# Altium footprint library Mercury_AD_BaseBoard_PCBLIB.PcbLib: 62 footprints (part 1 of 4)
Each footprint in its own frame and in the unit in brackets; x right, y up, seen from the top. Pads: shape width x height; smd on the part's side, far side on the other; paste and mask are expansions set on the pad; w line width, h text height; cw(c..) or ccw(c..) is an arc to the next point about the centre after c.
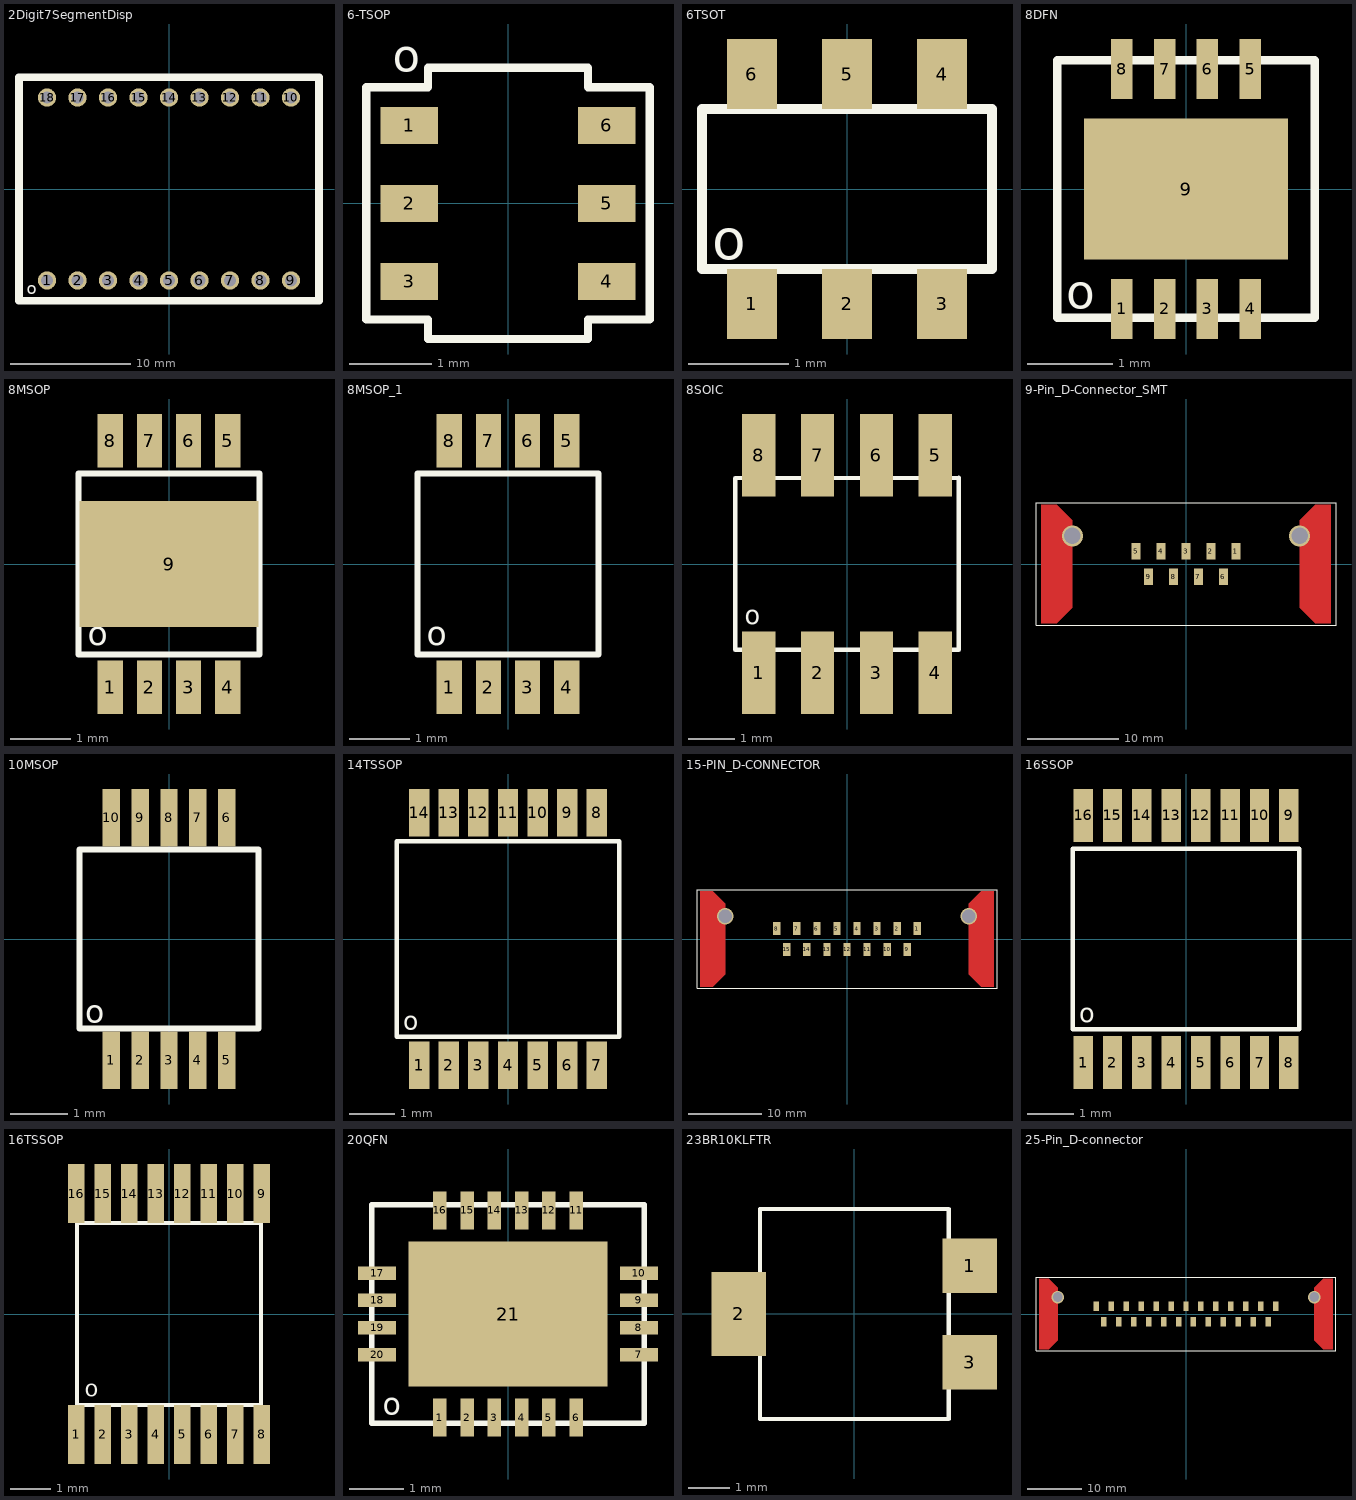
[diagram p0: the footprints below, top view; thin cyan lines are the x and y axes]

## 2Digit7SegmentDisp [mil]
pads (18):
  round 60 hole 40: 1(-400,-300) 2(-300,-300) 3(-200,-300) 4(-100,-300) 5(0,-300) 6(100,-300) 7(200,-300) 8(300,-300) 9(400,-300) 10(400,300) 11(300,300) 12(200,300) 13(100,300) 14(0,300) 15(-100,300) 16(-200,300) 17(-300,300) 18(-400,300)
Top Overlay:
  lines w25: -492.13,-366.14 492.13,-366.14 492.13,366.14 -492.13,366.14 -492.13,-366.14
  text "o" at -466.73,-345.47 h39.37

## 6-TSOP [mm]
pads (6):
  rect 0.7x0.45 smd mask+0.05: 1(-1.2,0.95) 2(-1.2,0) 3(-1.2,-0.95) 4(1.2,-0.95) 5(1.2,0) 6(1.2,0.95)
Top Overlay:
  lines w0.1: -1.725,-1.412 -1.725,1.412 -0.975,1.412 -0.975,1.65 0.975,1.65 0.975,1.412 1.725,1.412 1.725,-1.412 0.975,-1.412 0.975,-1.65 -0.975,-1.65 -0.975,-1.412 -1.725,-1.412
  text "o" at -1.4,1.6 h0.4

## 6TSOT [mm]
pads (6):
  rect 0.5x0.7 smd mask+0.07: 1(-0.95,-1.15) 2(0,-1.15) 3(0.95,-1.15) 4(0.95,1.15) 5(0,1.15) 6(-0.95,1.15)
Top Overlay:
  lines w0.1: -1.45,-0.8 -1.45,0.8 1.45,0.8 1.45,-0.8 -1.45,-0.8
  text "o" at -1.35,-0.7 h0.4

## 8DFN [mm]
pads (9):
  rect 0.25x0.7 smd mask+0.07: 1(-0.75,-1.4) 2(-0.25,-1.4) 3(0.25,-1.4) 4(0.75,-1.4) 5(0.75,1.4) 6(0.25,1.4) 7(-0.25,1.4) 8(-0.75,1.4)
  rect 2.38x1.65 smd mask+0.07: 9(0,0)
Top Overlay:
  lines w0.1: -1.5,-1.5 1.5,-1.5 1.5,1.5 -1.5,1.5 -1.5,-1.5
  text "o" at -1.4,-1.4 h0.4

## 8MSOP [mm]
pads (9):
  rect 0.42x0.889 smd mask+0.07: 1(-0.975,-2.044) 2(-0.325,-2.044) 3(0.325,-2.044) 4(0.975,-2.044) 5(0.975,2.044) 6(0.325,2.044) 7(-0.325,2.044) 8(-0.975,2.044)
  rect 2.974x2.083 smd mask+0.07: 9(0,0)
Top Overlay:
  lines w0.1: -1.5,-1.5 1.5,-1.5 1.5,1.5 -1.5,1.5 -1.5,-1.5
  text "o" at -1.35,-1.35 h0.4

## 8MSOP_1 [mm]
pads (8):
  rect 0.42x0.889 smd mask+0.07: 1(-0.975,-2.044) 2(-0.325,-2.044) 3(0.325,-2.044) 4(0.975,-2.044) 5(0.975,2.044) 6(0.325,2.044) 7(-0.325,2.044) 8(-0.975,2.044)
Top Overlay:
  lines w0.1: -1.5,-1.5 -1.5,1.5 1.5,1.5 1.5,-1.5 -1.5,-1.5
  text "o" at -1.35,-1.35 h0.4

## 8SOIC [mm]
pads (8):
  rect 0.72x1.78 smd mask+0.07: 1(-1.905,-2.34) 2(-0.635,-2.34) 3(0.635,-2.34) 4(1.905,-2.34) 5(1.905,2.34) 6(0.635,2.34) 7(-0.635,2.34) 8(-1.905,2.34)
Top Overlay:
  lines w0.1: 2.405,1.85 2.405,-1.85 -2.405,-1.85 -2.405,1.85 2.405,1.854
  text "o" at -2.2,-1.3 h0.4

## 9-Pin_D-Connector_SMT [mm]
pads (9):
  rect 1x1.8 smd mask+0.07: 1(5.48,1.42) 2(2.74,1.42) 3(0,1.42) 4(-2.74,1.42) 5(-5.48,1.42) 6(4.11,-1.42) 7(1.37,-1.42) 8(-1.37,-1.42) 9(-4.11,-1.42)
via 12.5,3.1 diameter 2.3 hole 1.8
via -12.5,3.1 diameter 2.3 hole 1.8
Top Layer:
  region: 12.5,4.8 12.5,-4.8 14.2,-6.5 15.9,-6.5 15.9,6.5 14.2,6.5
  region: -12.5,-4.8 -12.5,4.8 -14.2,6.5 -15.9,6.5 -15.9,-6.5 -14.2,-6.5
Top Overlay:
  lines w0.1: -16.5,-6.75 16.5,-6.75 16.5,6.75 -16.5,6.75 -16.5,-6.75

## 10MSOP [mm]
pads (10):
  rect 0.3x1 smd mask+0.07: 1(-1,-2.1) 2(-0.5,-2.1) 3(0,-2.1) 4(0.5,-2.1) 5(1,-2.1) 6(1,2.1) 7(0.5,2.1) 8(0,2.1) 9(-0.5,2.1) 10(-1,2.1)
Top Overlay:
  lines w0.1: -1.55,-1.55 -1.55,1.55 1.55,1.55 1.55,-1.55 -1.55,-1.55
  text "o" at -1.45,-1.45 h0.4

## 14TSSOP [mm]
pads (14):
  rect 0.45x1.05 smd mask+0.07: 1(-1.95,-2.775) 2(-1.3,-2.775) 3(-0.65,-2.775) 4(0,-2.775) 5(0.65,-2.775) 6(1.3,-2.775) 7(1.95,-2.775) 8(1.95,2.775) 9(1.3,2.775) 10(0.65,2.775) 11(0,2.775) 12(-0.65,2.775) 13(-1.3,2.775) 14(-1.95,2.775)
Top Overlay:
  lines w0.1: -2.45,-2.15 2.45,-2.15 2.45,2.15 -2.45,2.15 -2.45,-2.15
  text "o" at -2.3,-2 h0.4

## 15-PIN_D-CONNECTOR [mm]
pads (15):
  rect 1x1.8 smd mask+0.07: 1(9.59,1.42) 2(6.85,1.42) 3(4.11,1.42) 4(1.37,1.42) 5(-1.37,1.42) 6(-4.11,1.42) 7(-6.85,1.42) 8(-9.59,1.42) 9(8.22,-1.42) 10(5.48,-1.42) 11(2.74,-1.42) 12(0,-1.42) 13(-2.74,-1.42) 14(-5.48,-1.42) 15(-8.22,-1.42)
via 16.65,3.1 diameter 2.3 hole 1.8
via -16.65,3.1 diameter 2.3 hole 1.8
Top Layer:
  region: 16.65,-4.8 16.65,4.8 18.35,6.5 20.05,6.5 20.05,-6.5 18.35,-6.5
  region: -16.65,-4.8 -16.65,4.8 -18.35,6.5 -20.05,6.5 -20.05,-6.5 -18.35,-6.5
Top Overlay:
  lines w0.1: -20.5,-6.75 -20.5,6.75 20.5,6.75 20.5,-6.75 -20.5,-6.75

## 16SSOP [mil]
pads (16):
  rect 16.5x45 smd mask+2.76: 1(-87.5,-105) 2(-62.5,-105) 3(-37.5,-105) 4(-12.5,-105) 5(12.5,-105) 6(37.5,-105) 7(62.5,-105) 8(87.5,-105) 9(87.5,105) 10(62.5,105) 11(37.5,105) 12(12.5,105) 13(-12.5,105) 14(-37.5,105) 15(-62.5,105) 16(-87.5,105)
Top Overlay:
  lines w3.94: -96.25,-76.75 -96.25,76.75 96.25,76.75 96.25,-76.75 -96.25,-76.75
  text "o" at -90.55,-70.87 h15.75

## 16TSSOP [mm]
pads (16):
  rect 0.4x1.45 smd: 1(-2.275,-2.95) 4(-0.325,-2.95)
  rect 0.4x1.45 smd mask+0.07: 2(-1.625,-2.95) 3(-0.975,-2.95) 5(0.325,-2.95) 6(0.975,-2.95) 7(1.625,-2.95) 8(2.275,-2.95) 9(2.275,2.95) 10(1.625,2.95) 11(0.975,2.95) 12(0.325,2.95) 13(-0.325,2.95) 14(-0.975,2.95) 15(-1.625,2.95) 16(-2.275,2.95)
Top Overlay:
  lines w0.1: -2.25,-2.225 2.25,-2.225 2.25,2.225 -2.25,2.225 -2.25,-2.225
  text "o" at -2.07,-2.03 h0.4

## 20QFN [mm]
pads (21):
  rect 0.25x0.7 smd mask+0.07: 1(-1.25,-1.9) 2(-0.75,-1.9) 3(-0.25,-1.9) 4(0.25,-1.9) 5(0.75,-1.9) 6(1.25,-1.9) 11(1.25,1.9) 12(0.75,1.9) 13(0.25,1.9) 14(-0.25,1.9) 15(-0.75,1.9) 16(-1.25,1.9)
  rect 0.7x0.25 smd mask+0.07: 7(2.4,-0.75) 8(2.4,-0.25) 9(2.4,0.25) 10(2.4,0.75) 17(-2.4,0.75) 18(-2.4,0.25) 19(-2.4,-0.25) 20(-2.4,-0.75)
  rect 3.65x2.65 smd mask+0.07: 21(0,0)
Top Overlay:
  lines w0.1: -2.5,-2 -2.5,2 2.5,2 2.5,-2 -2.5,-2
  text "o" at -2.3,-1.85 h0.4

## 23BR10KLFTR [mm] "TRIMMER POTENTIOMETER"
pads (3):
  rect 1.3x1.3 smd mask+0.07: 1(2.75,1.15) 3(2.75,-1.15)
  rect 1.3x2 smd mask+0.07: 2(-2.75,0)
Top Overlay:
  lines w0.1: -2.25,-2.5 2.25,-2.5 2.25,2.5 -2.25,2.5 -2.25,-2.5

## 25-Pin_D-connector [mm]
pads (25):
  rect 1x1.8 smd mask+0.07: 1(16.44,1.42) 2(13.7,1.42) 3(10.96,1.42) 4(8.22,1.42) 5(5.48,1.42) 6(2.74,1.42) 7(0,1.42) 8(-2.74,1.42) 9(-5.48,1.42) 10(-8.22,1.42) 11(-10.96,1.42) 12(-13.7,1.42) 13(-16.44,1.42) 14(15.07,-1.42) 15(12.33,-1.42) 16(9.59,-1.42) 17(6.85,-1.42) 18(4.11,-1.42) 19(1.37,-1.42) 20(-1.37,-1.42) 21(-4.11,-1.42) 22(-6.85,-1.42) 23(-9.59,-1.42) 24(-12.33,-1.42) 25(-15.07,-1.42)
via -23.5,3.1 diameter 2.3 hole 1.8
via 23.5,3.1 diameter 2.3 hole 1.8
Top Layer:
  region: -23.5,-4.8 -23.5,4.8 -25.2,6.5 -26.9,6.5 -26.9,-6.5 -25.2,-6.5
  region: 23.5,4.8 23.5,-4.8 25.2,-6.5 26.9,-6.5 26.9,6.5 25.2,6.5
Top Overlay:
  lines w0.1: -27.5,-6.75 -27.5,6.75 27.5,6.75 27.5,-6.75 -27.5,-6.75